# Altium schematic symbol library RS485 RS422.SchLib: 31 symbols
Pins are listed as number, name and electrical type; pins without a type are passive.

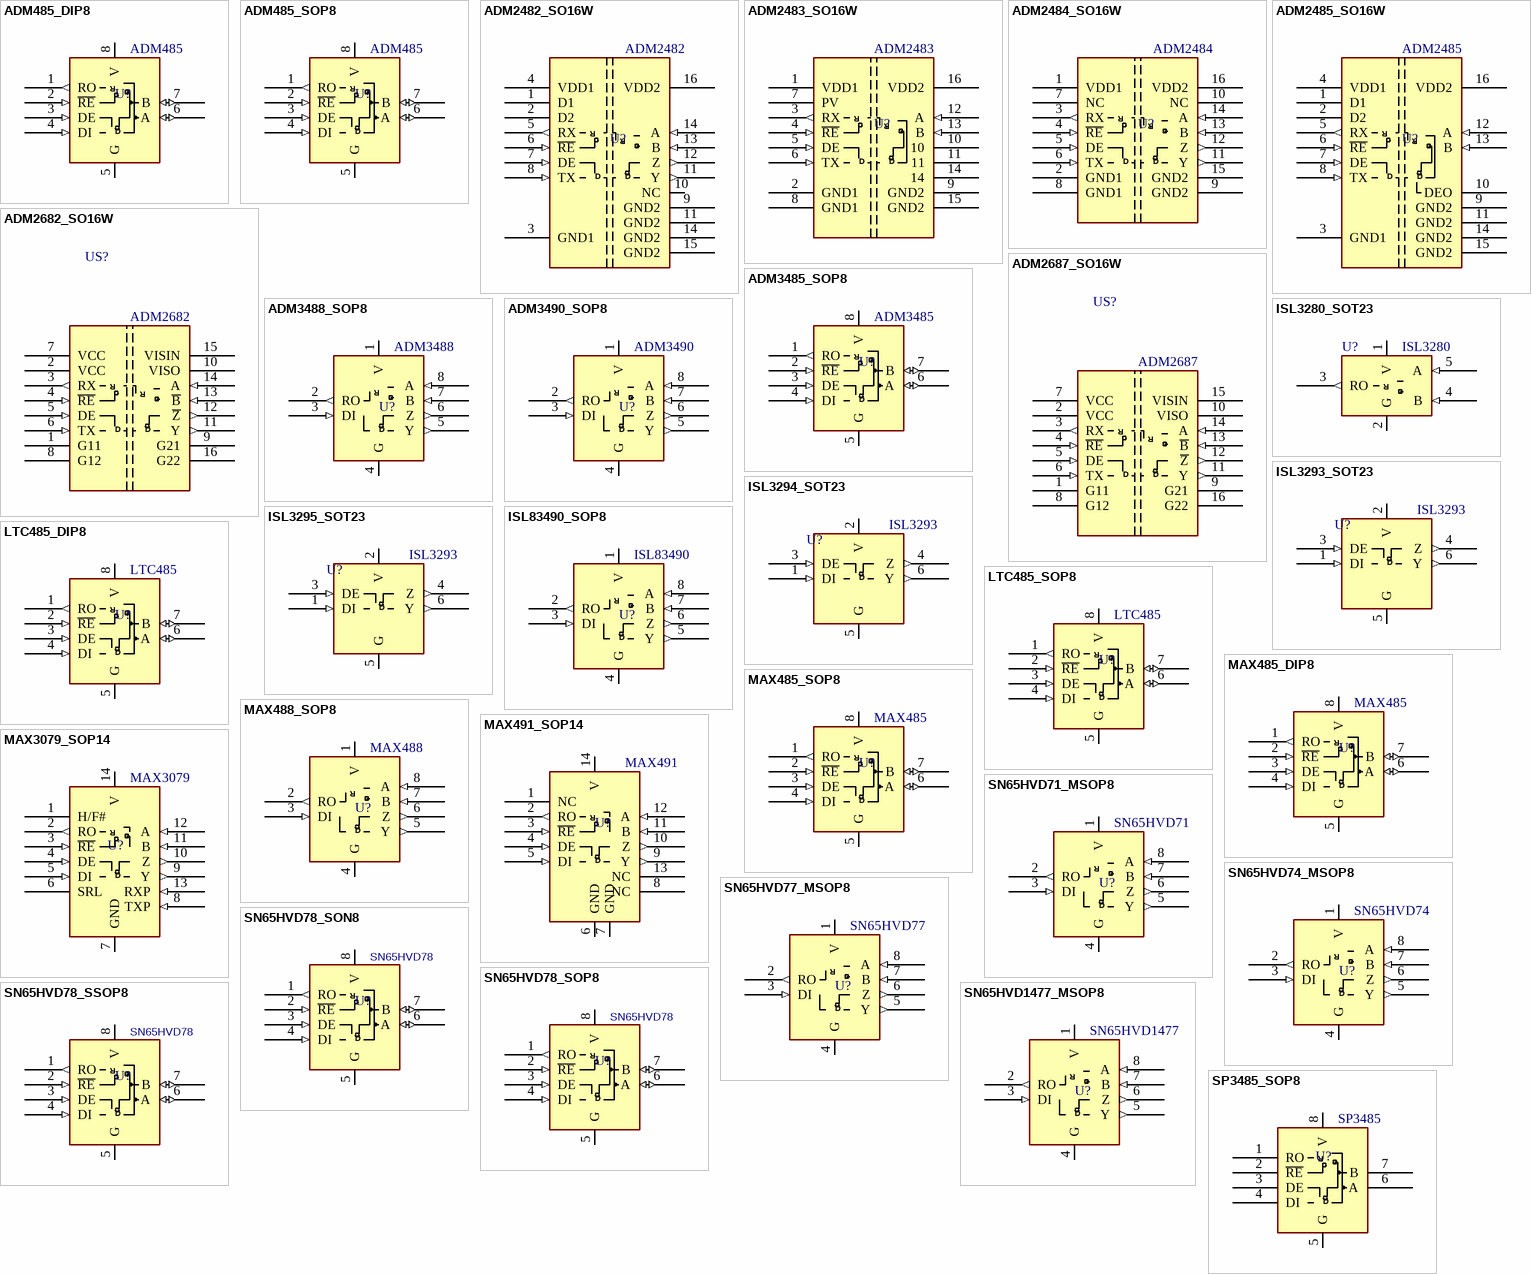
[diagram p0: symbols ADM485_DIP8 to SP3485_SOP8]

## ADM485_DIP8
designator U?, comment ADM485
RS485 Transceiver, 5V, DIP-8, ±7V Ground Difference Between Devices on the Bus; MANF_P#: ADM485AN; MANF: Analog Devices; PRICE: 4000toman@PAYA; VALUE: ADM485
footprint DIP_8 (DIP, pitch 2.54mm, 300mil Width)
pins: 1 RO (out), 2 ~{RE} (in), 3 DE (in), 4 DI (in), 5 G, 6 A (io), 7 B (io), 8 V
text: R; D

## ADM485_SOP8
designator U?, comment ADM485
RS485 Transceiver, 5V, SOP-8, ±7V Ground Difference Between Devices on the Bus; MANF_P#: ADM485AR; MANF: Analog Devices; PRICE: 4000toman@PAYA; VALUE: ADM485
footprint SO_8
pins: 1 RO (out), 2 ~{RE} (in), 3 DE (in), 4 DI (in), 5 G, 6 A (io), 7 B (io), 8 V
text: R; D

## ADM2482_SO16W
designator U?, comment ADM2482
RS-485 Transceiver, Isolated, iIntegrated Transformer Driver, 500kbps; MANF: Analog Devices; MANF_P#: ADM2482EBRWZ; PARAM2: 5/3.3 (VDD1); PARAM: 2.5KV Isolating, 500kbps, -40~85°C; PRICE: 7$; VALUE: ADM2482
footprint SO_16_W
pins: 1 D1, 2 D2, 3 GND1, 4 VDD1, 5 RX (out), 6 ~{RE} (in), 7 DE (in), 8 TX (in), 9 GND2, 10 NC, 11 GND2, 11 Y (out), 12 Z (out), 13 B (in), 14 GND2, 14 A (in), 15 GND2, 16 VDD2
text: R; D

## ADM2483_SO16W
designator U?, comment ADM2483
RS-485 Transceiver, Isolated, iCoupler, 16Mbps; MANF: Analog Devices; MANF_P#: ADM2483BRW; PARAM2: 5/3.3 (VDD1); PARAM: 2.5KV Isolating, 500kbps, -40~85°C; PRICE: 6000toman@JAVAN; VALUE: ADM2483
footprint SO_16_W
pins: 1 VDD1, 2 GND1, 3 RX (out), 4 ~{RE} (in), 5 DE (in), 6 TX (in), 7 PV, 8 GND1, 9 GND2, 10, 11, 12 A (in), 13 B (in), 14, 15 GND2, 16 VDD2
text: R; D

## ADM2484_SO16W
designator U?, comment ADM2484
RS-485 Transceiver, Isolated, iCoupler, Full-Duplex; MANF: Analog Devices; MANF_P#: ADM2484EBRWZ; PARAM2: 5v/3.3v; PARAM: 5KV Isolating, 500kbps, -40~85°C; VALUE: ADM2484
footprint SO_16_W
pins: 1 VDD1, 2 GND1, 3 RX (out), 4 ~{RE} (in), 5 DE (in), 6 TX (in), 7 NC, 8 GND1, 9 GND2, 10 NC, 11 Y (out), 12 Z (out), 13 B (in), 14 A (in), 15 GND2, 16 VDD2
text: R; D

## ADM2485_SO16W
designator U?, comment ADM2485
RS-485 Transceiver, Isolated, iIntegrated Transformer Driver, 16Mbps; MANF: Analog Devices; MANF_P#: ADM2485BRWZ; PARAM2: 5/3.3 (VDD1); PARAM: 2.5KV Isolating, 16Mbps, -40~85°C; PRICE: 22000toman@PAYA; VALUE: ADM2485
footprint SO_16_W
pins: 1 D1, 2 D2, 3 GND1, 4 VDD1, 5 RX (out), 6 ~{RE} (in), 7 DE (in), 8 TX (in), 9 GND2, 10 DEO, 11 GND2, 12 A (in), 13 B (in), 14 GND2, 15 GND2, 16 VDD2
text: R; D

## ADM2682_SO16W
designator US?, comment ADM2682
RS485 Transceiver, Isolated sig, IsoPOWER; MANF: Analog Devices; DIST#: MOUSER/584-ADM2682EBRIZ; MANF_P#: ADM2682EBRIZ; PARAM2: 5/3.3VCC; PARAM: 16Mbps, -40~85°C; PRICE: 15$; VALUE: ADM2682
footprint SO_16_WL (SOP, SOIC, 7.5mm width, 1.27mm pitch, MS-013-AC, RI-16-2, 16-Lead)
pins: 1 G11, 2 VCC, 3 RX (out), 4 ~{RE} (in), 5 DE (in), 6 TX (in), 7 VCC, 8 G12, 9 G21, 10 VISO, 11 Y (out), 12 ~{Z} (out), 13 ~{B} (in), 14 A (in), 15 VISIN, 16 G22
text: R; D

## ADM2687_SO16W
designator US?, comment ADM2687
RS485 Transceiver, Isolated sig, IsoPOWER; MANF: Analog Devices; DIST#: MOUSER/584-ADM2682EBRIZ; MANF_P#: ADM2687EBRIZ; PARAM2: 5/3.3VCC; PARAM: 500Kbps, -40~85°C; PRICE: 14$; VALUE: ADM2687
footprint SO_16_WL (SOP, SOIC, 7.5mm width, 1.27mm pitch, MS-013-AC, RI-16-2, 16-Lead)
pins: 1 G11, 2 VCC, 3 RX (out), 4 ~{RE} (in), 5 DE (in), 6 TX (in), 7 VCC, 8 G12, 9 G21, 10 VISO, 11 Y (out), 12 ~{Z} (out), 13 ~{B} (in), 14 A (in), 15 VISIN, 16 G22
text: R; D

## ADM3485_SOP8
designator U?, comment ADM3485
RS485 Transceiver, 3.3V , Half-Duplex; MANF_P#: ADM3485EARZ; MANF: Analog Devices; PRICE: 600toman@PAYA; VALUE: ADM3485
footprint SO_8
pins: 1 RO (out), 2 ~{RE} (in), 3 DE (in), 4 DI (in), 5 G, 6 A (io), 7 B (io), 8 V
text: R; D

## ADM3488_SOP8
designator U?, comment ADM3488
RS-485/RS-422 Transceiver, FULL-DUPLEX; MANF_P#: ADM3488EARZ; MANF: Analog Devices; PARAM2: 3.3V; PARAM: 250Kbps, -40~85°C; PRICE: 16000toman@PAYA; VALUE: ADM3488
footprint SO_8
pins: 1 V (power), 2 RO (out), 3 DI (in), 4 G (power), 5 Y (out), 6 Z (out), 7 B (in), 8 A (in)
text: R; D

## ADM3490_SOP8
designator U?, comment ADM3490
RS-485/RS-422 Transceiver, FULL-DUPLEX; MANF_P#: ADM3490EARZ; MANF: Analog Devices; PARAM2: 3.3V; PARAM: 10Mbps, -40~85°C; PRICE: 3.5$; VALUE: ADM3490
footprint SO_8
pins: 1 V (power), 2 RO (out), 3 DI (in), 4 G (power), 5 Y (out), 6 Z (out), 7 B (in), 8 A (in)
text: R; D

## ISL3280_SOT23
designator U?, comment ISL3280
RS485, Receiver, -7V~+12V; MANF: Intersil; MANF_P#: ISL3280E; PARAM2: 3~5.5VCC; VALUE: ISL3280
footprint SOT23_5 (SOT-23-5, SOT25, SOT-25, DBV(R-PDSO-G5), TSOT23-5, SC-74A, SOT23-5, S5-T (LINEAR), MO-178AA, MO-193AB(JEDEC), MF05A (NS), TSOP-6(ON), UJ-5 (AD))
pins: 1 V (power), 2 G (power), 3 RO (out), 4 B (in), 5 A (in)
text: R

## ISL3293_SOT23
designator U?, comment ISL3293
RS-485, Tranmitter, -7~+12V, 0.25Mbps; MANF: Intersil; MANF_P#: ISL3293E; PARAM2: 3~5.5VCC; VALUE: ISL3293
footprint SOT23_6 (SOT-23-6, MICRO6, SOT-26, SOT457, SuperSOT6, TSOP-6, HMC313, MO-178AB, MO-193AA, TSOT)
pins: 1 DI (in), 2 V (power), 3 DE (in), 4 Z (out), 5 G (power), 6 Y (out)
text: D

## ISL3294_SOT23
designator U?, comment ISL3293
RS-485, Tranmitter, -7~+12V, 0.5Mbps; MANF: Intersil; MANF_P#: ISL3294E; PARAM2: 3~5.5VCC; VALUE: ISL3293
footprint SOT23_6 (SOT-23-6, MICRO6, SOT-26, SOT457, SuperSOT6, TSOP-6, HMC313, MO-178AB, MO-193AA, TSOT)
pins: 1 DI (in), 2 V (power), 3 DE (in), 4 Z (out), 5 G (power), 6 Y (out)
text: D

## ISL3295_SOT23
designator U?, comment ISL3293
RS-485, Tranmitter, -7~+12V, 20Mbps; MANF: Intersil; MANF_P#: ISL3295E; PARAM2: 3~5.5VCC; VALUE: ISL3293
footprint SOT23_6 (SOT-23-6, MICRO6, SOT-26, SOT457, SuperSOT6, TSOP-6, HMC313, MO-178AB, MO-193AA, TSOT)
pins: 1 DI (in), 2 V (power), 3 DE (in), 4 Z (out), 5 G (power), 6 Y (out)
text: D

## ISL83490_SOP8
designator U?, comment ISL83490
RS-485/RS-422 Transceiver, FULL-DUPLEX; MANF_P#: ISL83490IBZ; MANF: Renesas; PARAM2: 3.3V; PARAM: 10Mbps, -40~85°C; PRICE: 1$; VALUE: ISL83490
footprint SO_8
pins: 1 V (power), 2 RO (out), 3 DI (in), 4 G (power), 5 Y (out), 6 Z (out), 7 B (in), 8 A (in)
text: R; D

## LTC485_DIP8
designator U?, comment LTC485
RS485 Transceiver, 5V, DIP-8, ±7V Ground Difference Between Devices on the Bus; MANF_P#: LTC485CN8; MANF: Linear Technology.; PRICE: 10,000toman@PAYA; VALUE: LTC485
footprint DIP_8 (DIP, pitch 2.54mm, 300mil Width)
pins: 1 RO (out), 2 ~{RE} (in), 3 DE (in), 4 DI (in), 5 G, 6 A (io), 7 B (io), 8 V
text: R; D

## LTC485_SOP8
designator U?, comment LTC485
RS485 Transceiver, 5V, SOP-8, ±7V Ground Difference Between Devices on the Bus; MANF_P#: LTC485CS8; MANF: Linear Technology.; PRICE: 3500toman@PAYA; VALUE: LTC485
footprint SO_8
pins: 1 RO (out), 2 ~{RE} (in), 3 DE (in), 4 DI (in), 5 G, 6 A (io), 7 B (io), 8 V
text: R; D

## MAX485_DIP8
designator U?, comment MAX485
RS485 Transceiver, 5V, DIP-8, ±7V Ground Difference Between Devices on the Bus; MANF_P#: MAX485EPA; MANF: Maxim Integrated; PRICE: 700toman@PAYA; VALUE: MAX485
footprint DIP_8 (DIP, pitch 2.54mm, 300mil Width)
pins: 1 RO (out), 2 ~{RE} (in), 3 DE (in), 4 DI (in), 5 G, 6 A (io), 7 B (io), 8 V
text: R; D

## MAX485_SOP8
designator U?, comment MAX485
RS485 Transceiver, 5V, SOP-8, ±7V Ground Difference Between Devices on the Bus; MANF_P#: MAX485ESA; MANF: Maxim Integrated; PRICE: 700toman@PAYA; VALUE: MAX485
footprint SO_8
pins: 1 RO (out), 2 ~{RE} (in), 3 DE (in), 4 DI (in), 5 G, 6 A (io), 7 B (io), 8 V
text: R; D

## MAX488_SOP8
designator U?, comment MAX488
RS-485/RS-422 Transceiver, FULL-DUPLEX; MANF_P#: MAX488ESA; MANF: Maxim Integrated; PRICE: 2000toman@PAYA; VALUE: MAX488
footprint SO_8
pins: 1 V (power), 2 RO (out), 3 DI (in), 4 G (power), 5 Y (out), 6 Z (out), 7 B (in), 8 A (in)
text: R; D

## MAX491_SOP14
designator U?, comment MAX491
RS-485/RS-422 Transceiver, FULL-DUPLEX; MANF_P#: MAX491ESD; MANF: Maxim Integrated; VALUE: MAX491
footprint SO_14
pins: 1 NC, 2 RO (out), 3 ~{RE} (in), 4 DE (in), 5 DI (in), 6 GND (power), 7 GND (power), 8 NC, 9 Y (out), 10 Z (out), 11 B (in), 12 A (in), 13 NC, 14 V (power)
text: R; D

## MAX3079_SOP14
designator U?, comment MAX3079
RS-485/RS-422 Transceiver, FULL-DUPLEX; MANF: Maxim Integrated; MANF_P#: MAX3079EASD; PRICE: 6000toman@PAYA; VALUE: MAX3079
footprint SO_14
pins: 1 H/F#, 2 RO (out), 3 ~{RE} (in), 4 DE (in), 5 DI (in), 6 SRL, 7 GND (power), 8 TXP (in), 9 Y (out), 10 Z (out), 11 B (in), 12 A (in), 13 RXP (in), 14 V (power)
text: R; D

## SN65HVD71_MSOP8
designator U?, comment SN65HVD71
RS-485/RS-422 Transceiver, FULL-DUPLEX; MANF_P#: SN65HVD71DGK; MANF: Texas Instruments; PARAM2: 3.3V; PARAM: 400kbps, ±12kV ESD; PRICE: 4.2$; VALUE: SN65HVD71
footprint SOG65_8_3 (TSSOP8, MICRO8,  DGK VSSOP-8, MSOP8,   RM-8, MS8, MSOP-8, TSSO3X5-G8/D3.1, 8 uMAX, usop8/8uSOP, MO-187AA, MO-153AA, SSOP DCT SM8 (TI), pitch: 0.65mm, 3.0mmX3.0mm)
pins: 1 V (power), 2 RO (out), 3 DI (in), 4 G (power), 5 Y (out), 6 Z (out), 7 B (in), 8 A (in)
text: R; D

## SN65HVD74_MSOP8
designator U?, comment SN65HVD74
RS-485/RS-422 Transceiver, FULL-DUPLEX; MANF_P#: SN65HVD74DGK; MANF: Texas Instruments; PARAM2: 3.3V; PARAM: 20Mbps, ±12kV ESD; PRICE: 4.5$; VALUE: SN65HVD74
footprint SOG65_8_3 (TSSOP8, MICRO8,  DGK VSSOP-8, MSOP8,   RM-8, MS8, MSOP-8, TSSO3X5-G8/D3.1, 8 uMAX, usop8/8uSOP, MO-187AA, MO-153AA, SSOP DCT SM8 (TI), pitch: 0.65mm, 3.0mmX3.0mm)
pins: 1 V (power), 2 RO (out), 3 DI (in), 4 G (power), 5 Y (out), 6 Z (out), 7 B (in), 8 A (in)
text: R; D

## SN65HVD77_MSOP8
designator U?, comment SN65HVD77
RS-485/RS-422 Transceiver, FULL-DUPLEX; MANF_P#: SN65HVD77DGK; MANF: Texas Instruments; PARAM2: 3.3V; PARAM: 50Mbps, ±12kV ESD; PRICE: 4.5$; VALUE: SN65HVD77
footprint SOG65_8_3 (TSSOP8, MICRO8,  DGK VSSOP-8, MSOP8,   RM-8, MS8, MSOP-8, TSSO3X5-G8/D3.1, 8 uMAX, usop8/8uSOP, MO-187AA, MO-153AA, SSOP DCT SM8 (TI), pitch: 0.65mm, 3.0mmX3.0mm)
pins: 1 V (power), 2 RO (out), 3 DI (in), 4 G (power), 5 Y (out), 6 Z (out), 7 B (in), 8 A (in)
text: R; D

## SN65HVD78_SON8
designator U?, comment SN65HVD78
RS485 Transceiver, 3.3V, HalfDuplex; MANF_P#: SN65HVD78DRB; MANF: TI; PARAM: 50Mbps, -40~125oC; PRICE: 2.8$; PARAM2: 3.3V; VALUE: SN65HVD78
footprint SON65_8T_3X3 (DRB PVSON8 (TI), 3.00x3.00mm, Pitch 0.65mm)
pins: 1 RO (out), 2 ~{RE} (in), 3 DE (in), 4 DI (in), 5 G, 6 A (io), 7 B (io), 8 V
text: R; D

## SN65HVD78_SOP8
designator U?, comment SN65HVD78
RS485 Transceiver, 3.3V, HalfDuplex; MANF_P#: SN65HVD78D; MANF: TI; PARAM: 50Mbps, -40~125oC; PRICE: 2.8$; PARAM2: 3.3V; VALUE: SN65HVD78
footprint SO_8 (SOP-8, 5x3.9mm body 1.27mm pitch, SOT96-1, M08A, S8, SOIC8, VO8, MS-012AA(JEDEC), R-8, 8S2, VOG8)
pins: 1 RO (out), 2 ~{RE} (in), 3 DE (in), 4 DI (in), 5 G, 6 A (io), 7 B (io), 8 V
text: R; D

## SN65HVD78_SSOP8
designator U?, comment SN65HVD78
RS485 Transceiver, 3.3V, HalfDuplex; MANF_P#: SN65HVD78DGKR; MANF: TI; PARAM: 50Mbps, -40~125oC; PRICE: 3.6$; PARAM2: 3.3V; VALUE: SN65HVD78
footprint SOG65_8_3 (TSSOP8, MICRO8,  DGK VSSOP-8, MSOP8,   RM-8, MS8, MSOP-8, TSSO3X5-G8/D3.1, 8 uMAX, usop8/8uSOP, MO-187AA, MO-153AA, SSOP DCT SM8 (TI), pitch: 0.65mm, 3.0mmX3.0mm)
pins: 1 RO (out), 2 ~{RE} (in), 3 DE (in), 4 DI (in), 5 G, 6 A (io), 7 B (io), 8 V
text: R; D

## SN65HVD1477_MSOP8
designator U?, comment SN65HVD1477
RS-485/RS-422 Transceiver, FULL-DUPLEX; MANF_P#: SN65HVD1477DGK; MANF: Texas Instruments; PARAM2: 3.3V; PARAM: 50Mbps, ±16kV ESD; PRICE: 4.5$; VALUE: SN65HVD1477
footprint SOG65_8_3 (TSSOP8, MICRO8,  DGK VSSOP-8, MSOP8,   RM-8, MS8, MSOP-8, TSSO3X5-G8/D3.1, 8 uMAX, usop8/8uSOP, MO-187AA, MO-153AA, SSOP DCT SM8 (TI), pitch: 0.65mm, 3.0mmX3.0mm)
pins: 1 V (power), 2 RO (out), 3 DI (in), 4 G (power), 5 Y (out), 6 Z (out), 7 B (in), 8 A (in)
text: R; D

## SP3485_SOP8
designator U?, comment SP3485
RS485 Transceiver, 3.3V; MANF: Exar; MANF_P#: SP3485; PRICE: 2.5$@MOUSER; VALUE: SP3485
footprint SO_8
pins: 1 RO, 2 ~{RE}, 3 DE, 4 DI, 5 G, 6 A, 7 B, 8 V
text: R; D